# Altium footprint library LSF0204GU12X_Translator.PcbLib: 1 footprints
Each footprint in its own frame and in the unit in brackets; x right, y up, seen from the top. Pads: shape width x height; smd on the part's side, far side on the other; paste and mask are expansions set on the pad; w line width, h text height; cw(c..) or ccw(c..) is an arc to the next point about the centre after c.
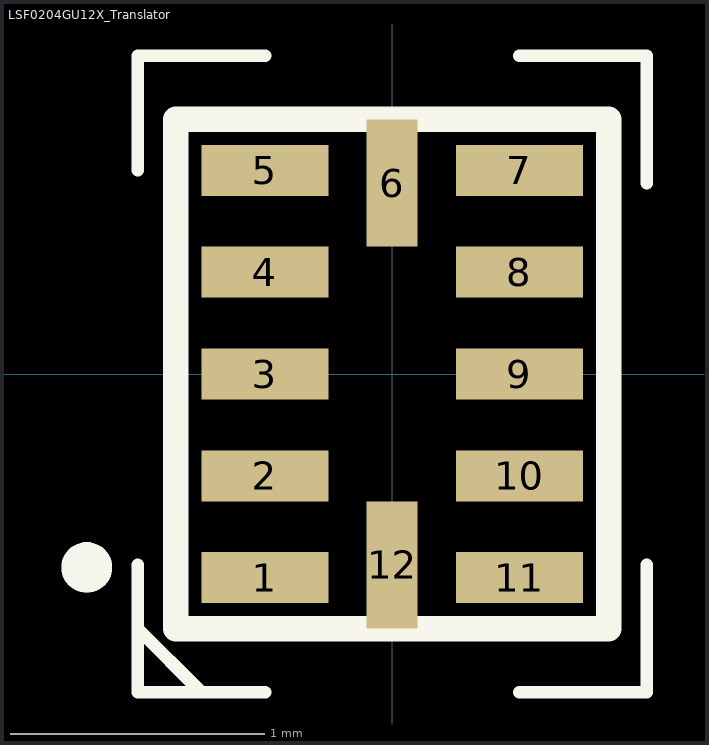
[diagram p0: the footprint, top view; thin cyan lines are the x and y axes]

## LSF0204GU12X_Translator [mm]
pads (13):
  rect 0.5x0.2 smd mask+0.03: 1(-0.5,-0.8) 2(-0.5,-0.4) 3(-0.5,0) 4(-0.5,0.4) 5(-0.5,0.8) 7(0.5,0.8) 8(0.5,0.4) 9(0.5,0) 10(0.5,-0.4) 11(0.5,-0.8)
  rect 0.2x0.5 smd mask+0.03: 6(0,0.75) 12(0,-0.75)
  round 0.2 on Top Overlay mask+0.012: ""(-1.2,-0.76)
Top Overlay:
  lines w0.05: -1,-1 -0.75,-1.25 ; -1,-0.75 -1,-1.25 -0.5,-1.25 ; -1,0.8 -1,1.25 -0.5,1.25 ; 0.5,-1.25 1,-1.25 1,-0.75 ; 0.5,1.25 1,1.25 1,0.75 ; -0.75,-1.25 -0.75,-1.25
  lines w0.1: -0.85,-1 0.85,-1 0.85,1 -0.85,1 -0.85,-1
3D body "LSF0204GU12X.stp": height 0.34, standoff -0.15, extent -0.86,-1 0.84,1